# Altium schematic symbol library CGJ2B2X7R1C222K050BA.SchLib: 1 symbol
Pins are listed as number, name and electrical type; pins without a type are passive.

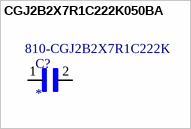
[diagram p0: symbol CGJ2B2X7R1C222K050BA]

## CGJ2B2X7R1C222K050BA
designator C?  Supplier Part Number 1: 810-CGJ2B2X7R1C222K
High Reliability - Autograde Plus+, Reel Size: 7" (180mm); MP: CGJ2B2X7R1C222K050BA; Package: None; Price: None; Value: *; Availability: Unavailable; Supplier 1: Mouser
footprint CAPC1005X55N
pins: 1, 2